# Altium integrated library BB Converter Digital to Analog.IntLib: 269 symbols (part 1 of 6)
Pins are listed as number, name and electrical type; pins without a type are passive.

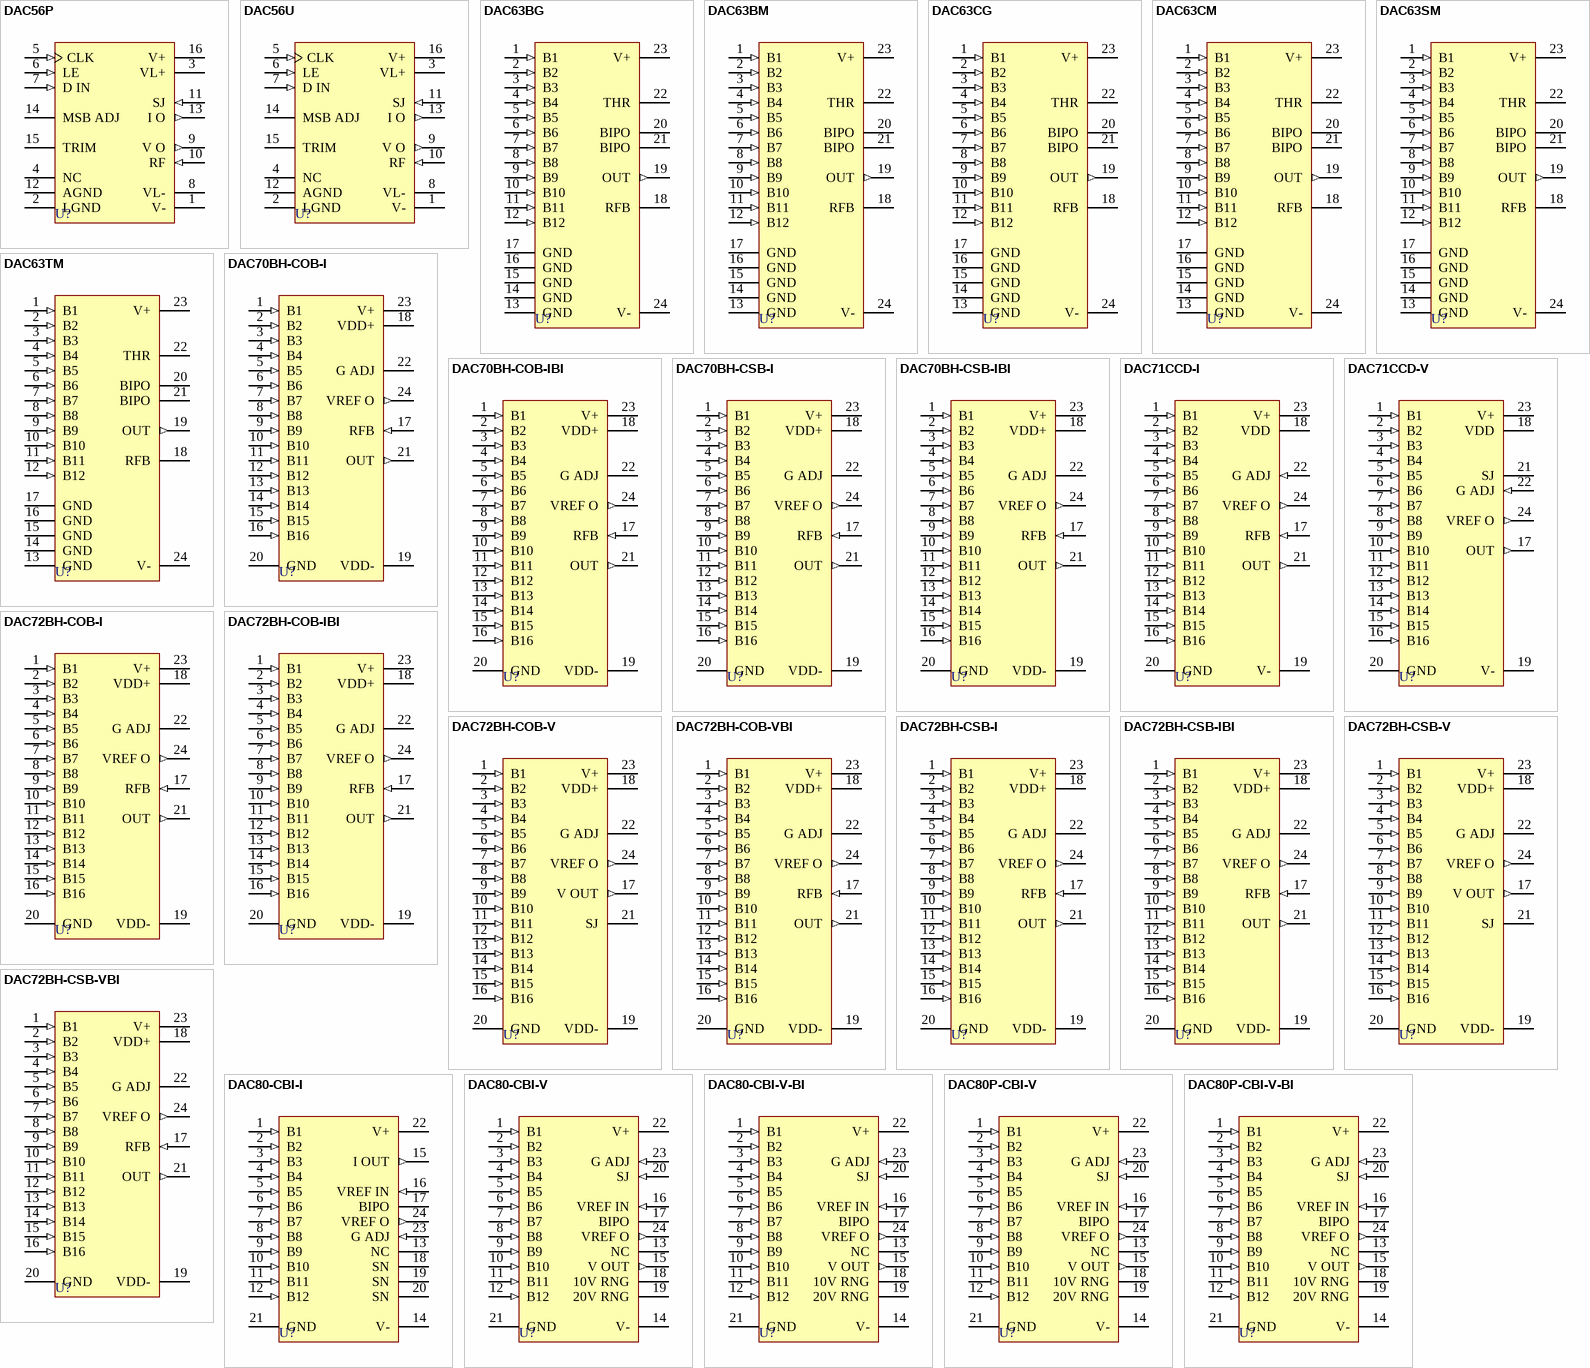
[diagram p0: symbols DAC56P to DAC80P-CBI-V-BI]

## DAC56P
designator U?
Monolithic 16-Bit Resolution Digital-to-Analog Converter; Note: Pin 4 is No internal Connection (NC) pin.; Published: 8-Jun-2000; LatestRevisionDate: 06-Jun-2005; LatestRevisionNote: Stylized 3D Model Added.; PackageVersion: revF; PackageReference: ZZ180; Publisher: Altium Limited; PackageDescription: DIP, Plastic; 16 Leads; Row Spacing 7.62 mm; Pitch 2.54 mm; Code_JEDEC: MS-001-BB; ComponentLink1Description: Manufacturer Link; ComponentLink1URL: http://www.ti.com/; ComponentLink2Description: Datasheet; ComponentLink2URL: http://www-s.ti.com/sc/ds/DAC56.pdf
footprint ZZ180 (DIP, Plastic; 16 Leads; Row Spacing 7.62 mm; Pitch 2.54 mm)
3D model ZZ180 (DIP, Plastic; 16 Leads; Row Spacing 7.62 mm; Pitch 2.54 mm)
pins: 1 V- (power), 2 LGND (power), 3 VL+ (power), 4 NC, 5 CLK (in), 6 LE (in), 7 D IN (in), 8 VL- (power), 9 V O (out), 10 RF (in), 11 SJ (in), 12 AGND (power), 13 I O (out), 14 MSB ADJ, 15 TRIM, 16 V+ (power)

## DAC56U
designator U?
Monolithic 16-Bit Resolution Digital-to-Analog Converter; Note: Pin 4 is No internal Connection (NC) pin.; Published: 8-Jun-2000; LatestRevisionDate: 13-Apr-2006; LatestRevisionNote: IPC-7351 Footprint Added.; PackageReference: 211F; Publisher: Altium Limited; PackageDescription: 16-Pin Small Outline Integrated Circuit 1.27 mm Pitch; Code_JEDEC: MS-013-AA; Code_IPC: SOIC127P1030-16; ComponentLink1Description: Manufacturer Link; ComponentLink1URL: http://www.ti.com/; ComponentLink2Description: Datasheet; ComponentLink2URL: http://www-s.ti.com/sc/ds/DAC56.pdf
footprint 211F_N (SOIC, 16-Leads, Body 10.3x7.5mm, Pitch 1.27mm, IPC Medium Density)
footprint 211F_L (SOIC, 16-Leads, Body 10.3x7.5mm, Pitch 1.27mm, IPC High Density)
footprint 211F_M (SOIC, 16-Leads, Body 10.3x7.5mm, Pitch 1.27mm, IPC Low Density)
3D model SOIC16 (16-Pin Small Outline Integrated Circuit 1.27 mm Pitch)
pins: 1 V- (power), 2 LGND (power), 3 VL+ (power), 4 NC, 5 CLK (in), 6 LE (in), 7 D IN (in), 8 VL- (power), 9 V O (out), 10 RF (in), 11 SJ (in), 12 AGND (power), 13 I O (out), 14 MSB ADJ, 15 TRIM, 16 V+ (power)

## DAC63BG
designator U?
Ultra-High-Speed Digital-to-Analog Converter; Published: 8-Jun-2000; LatestRevisionDate: 17-Jul-2002; LatestRevisionNote: PCB footprint, 'DIP-P24/X1.1' replaced, Re-released for DXP Platform.; DatasheetVersion: 1989; PackageVersion: 1989; PackageReference: H24; Publisher: Altium Limited; PackageDescription: DIP; 24 Rectangular Pins; Row Space 15.24 mm; Pitch 2.54 mm; ComponentLink1Description: Manufacturer Link; ComponentLink1URL: http://www.ti.com/
footprint H24 (DIP; 24 Rectangular Pins; Row Space 15.24 mm; Pitch 2.54 mm)
pins: 1 B1 (in), 2 B2 (in), 3 B3 (in), 4 B4 (in), 5 B5 (in), 6 B6 (in), 7 B7 (in), 8 B8 (in), 9 B9 (in), 10 B10 (in), 11 B11 (in), 12 B12 (in), 13 GND (power), 14 GND (power), 15 GND (power), 16 GND (power), 17 GND (power), 18 RFB, 19 OUT (out), 20 BIPO, 21 BIPO, 22 THR, 23 V+ (power), 24 V- (power)

## DAC63BM
designator U?
Ultra-High-Speed Digital-to-Analog Converter; Published: 8-Jun-2000; LatestRevisionDate: 17-Jul-2002; LatestRevisionNote: Re-released for DXP Platform.; DatasheetVersion: 1989; PackageVersion: 1994; PackageReference: ZZ113; Publisher: Altium Limited; PackageDescription: DIP; 24 Round Pins; Row Space 15.24 mm; Pitch 2.54 mm; ComponentLink1Description: Manufacturer Link; ComponentLink1URL: http://www.ti.com/
footprint ZZ113 (DIP; 24 Round Pins; Row Space 15.24 mm; Pitch 2.54 mm)
pins: 1 B1 (in), 2 B2 (in), 3 B3 (in), 4 B4 (in), 5 B5 (in), 6 B6 (in), 7 B7 (in), 8 B8 (in), 9 B9 (in), 10 B10 (in), 11 B11 (in), 12 B12 (in), 13 GND (power), 14 GND (power), 15 GND (power), 16 GND (power), 17 GND (power), 18 RFB, 19 OUT (out), 20 BIPO, 21 BIPO, 22 THR, 23 V+ (power), 24 V- (power)

## DAC63CG
designator U?
Ultra-High-Speed Digital-to-Analog Converter; Published: 8-Jun-2000; LatestRevisionDate: 17-Jul-2002; LatestRevisionNote: PCB footprint, 'DIP-P24/X1.1' replaced, Re-released for DXP Platform.; DatasheetVersion: 1989; PackageVersion: 1989; PackageReference: H24; Publisher: Altium Limited; PackageDescription: DIP; 24 Rectangular Pins; Row Space 15.24 mm; Pitch 2.54 mm; ComponentLink1Description: Manufacturer Link; ComponentLink1URL: http://www.ti.com/
footprint H24 (DIP; 24 Rectangular Pins; Row Space 15.24 mm; Pitch 2.54 mm)
pins: 1 B1 (in), 2 B2 (in), 3 B3 (in), 4 B4 (in), 5 B5 (in), 6 B6 (in), 7 B7 (in), 8 B8 (in), 9 B9 (in), 10 B10 (in), 11 B11 (in), 12 B12 (in), 13 GND (power), 14 GND (power), 15 GND (power), 16 GND (power), 17 GND (power), 18 RFB, 19 OUT (out), 20 BIPO, 21 BIPO, 22 THR, 23 V+ (power), 24 V- (power)

## DAC63CM
designator U?
Ultra-High-Speed Digital-to-Analog Converter; Published: 8-Jun-2000; LatestRevisionDate: 17-Jul-2002; LatestRevisionNote: Re-released for DXP Platform.; DatasheetVersion: 1989; PackageVersion: 1994; PackageReference: ZZ113; Publisher: Altium Limited; PackageDescription: DIP; 24 Round Pins; Row Space 15.24 mm; Pitch 2.54 mm; ComponentLink1Description: Manufacturer Link; ComponentLink1URL: http://www.ti.com/
footprint ZZ113 (DIP; 24 Round Pins; Row Space 15.24 mm; Pitch 2.54 mm)
pins: 1 B1 (in), 2 B2 (in), 3 B3 (in), 4 B4 (in), 5 B5 (in), 6 B6 (in), 7 B7 (in), 8 B8 (in), 9 B9 (in), 10 B10 (in), 11 B11 (in), 12 B12 (in), 13 GND (power), 14 GND (power), 15 GND (power), 16 GND (power), 17 GND (power), 18 RFB, 19 OUT (out), 20 BIPO, 21 BIPO, 22 THR, 23 V+ (power), 24 V- (power)

## DAC63SM
designator U?
Ultra-High-Speed Digital-to-Analog Converter; Published: 8-Jun-2000; LatestRevisionDate: 17-Jul-2002; LatestRevisionNote: Re-released for DXP Platform.; DatasheetVersion: 1989; PackageVersion: 1994; PackageReference: ZZ113; Publisher: Altium Limited; PackageDescription: DIP; 24 Round Pins; Row Space 15.24 mm; Pitch 2.54 mm; ComponentLink1Description: Manufacturer Link; ComponentLink1URL: http://www.ti.com/
footprint ZZ113 (DIP; 24 Round Pins; Row Space 15.24 mm; Pitch 2.54 mm)
pins: 1 B1 (in), 2 B2 (in), 3 B3 (in), 4 B4 (in), 5 B5 (in), 6 B6 (in), 7 B7 (in), 8 B8 (in), 9 B9 (in), 10 B10 (in), 11 B11 (in), 12 B12 (in), 13 GND (power), 14 GND (power), 15 GND (power), 16 GND (power), 17 GND (power), 18 RFB, 19 OUT (out), 20 BIPO, 21 BIPO, 22 THR, 23 V+ (power), 24 V- (power)

## DAC63TM
designator U?
Ultra-High-Speed Digital-to-Analog Converter; Published: 8-Jun-2000; LatestRevisionDate: 17-Jul-2002; LatestRevisionNote: Re-released for DXP Platform.; DatasheetVersion: 1989; PackageVersion: 1994; PackageReference: ZZ113; Publisher: Altium Limited; PackageDescription: DIP; 24 Round Pins; Row Space 15.24 mm; Pitch 2.54 mm; ComponentLink1Description: Manufacturer Link; ComponentLink1URL: http://www.ti.com/
footprint ZZ113 (DIP; 24 Round Pins; Row Space 15.24 mm; Pitch 2.54 mm)
pins: 1 B1 (in), 2 B2 (in), 3 B3 (in), 4 B4 (in), 5 B5 (in), 6 B6 (in), 7 B7 (in), 8 B8 (in), 9 B9 (in), 10 B10 (in), 11 B11 (in), 12 B12 (in), 13 GND (power), 14 GND (power), 15 GND (power), 16 GND (power), 17 GND (power), 18 RFB, 19 OUT (out), 20 BIPO, 21 BIPO, 22 THR, 23 V+ (power), 24 V- (power)

## DAC70BH-COB-I
designator U?
Monolithic 16-Bit Digital-to-Analog Converter; ComponentAvailability: Obsolete; Published: 8-Jun-2000; LatestRevisionDate: 06-Jun-2005; LatestRevisionNote: Stylized 3D Model Added.; DatasheetVersion: 1989; PackageReference: DIP24C; Publisher: Altium Limited; PackageDescription: DIP; 24 Leads; Row Spacing 15.24 mm; Pitch 2.54 mm; ComponentLink1Description: Manufacturer Link; ComponentLink1URL: http://www.ti.com/; ComponentLink2Description: Datasheet; ComponentLink2URL: http://www-s.ti.com/sc/ds/dac70.pdf
footprint DIP24C (DIP; 24 Leads; Row Spacing 15.24 mm; Pitch 2.54 mm)
3D model DIP24C (DIP; 24 Leads; Row Spacing 15.24 mm; Pitch 2.54 mm)
pins: 1 B1 (in), 2 B2 (in), 3 B3 (in), 4 B4 (in), 5 B5 (in), 6 B6 (in), 7 B7 (in), 8 B8 (in), 9 B9 (in), 10 B10 (in), 11 B11 (in), 12 B12 (in), 13 B13 (in), 14 B14 (in), 15 B15 (in), 16 B16 (in), 17 RFB (in), 18 VDD+ (power), 19 VDD- (power), 20 GND (power), 21 OUT (out), 22 G ADJ, 23 V+ (power), 24 VREF O (out)

## DAC70BH-COB-IBI
designator U?
Monolithic 16-Bit Digital-to-Analog Converter; ComponentAvailability: Obsolete; Published: 8-Jun-2000; LatestRevisionDate: 06-Jun-2005; LatestRevisionNote: Stylized 3D Model Added.; DatasheetVersion: 1989; PackageReference: DIP24C; Publisher: Altium Limited; PackageDescription: DIP; 24 Leads; Row Spacing 15.24 mm; Pitch 2.54 mm; ComponentLink1Description: Manufacturer Link; ComponentLink1URL: http://www.ti.com/; ComponentLink2Description: Datasheet; ComponentLink2URL: http://www-s.ti.com/sc/ds/dac70.pdf
footprint DIP24C (DIP; 24 Leads; Row Spacing 15.24 mm; Pitch 2.54 mm)
3D model DIP24C (DIP; 24 Leads; Row Spacing 15.24 mm; Pitch 2.54 mm)
pins: 1 B1 (in), 2 B2 (in), 3 B3 (in), 4 B4 (in), 5 B5 (in), 6 B6 (in), 7 B7 (in), 8 B8 (in), 9 B9 (in), 10 B10 (in), 11 B11 (in), 12 B12 (in), 13 B13 (in), 14 B14 (in), 15 B15 (in), 16 B16 (in), 17 RFB (in), 18 VDD+ (power), 19 VDD- (power), 20 GND (power), 21 OUT (out), 22 G ADJ, 23 V+ (power), 24 VREF O (out)

## DAC70BH-CSB-I
designator U?
Monolithic 16-Bit Digital-to-Analog Converter; ComponentAvailability: Obsolete; Published: 8-Jun-2000; LatestRevisionDate: 06-Jun-2005; LatestRevisionNote: Stylized 3D Model Added.; DatasheetVersion: 1989; PackageReference: DIP24C; Publisher: Altium Limited; PackageDescription: DIP; 24 Leads; Row Spacing 15.24 mm; Pitch 2.54 mm; ComponentLink1Description: Manufacturer Link; ComponentLink1URL: http://www.ti.com/; ComponentLink2Description: Datasheet; ComponentLink2URL: http://www-s.ti.com/sc/ds/dac70.pdf
footprint DIP24C (DIP; 24 Leads; Row Spacing 15.24 mm; Pitch 2.54 mm)
3D model DIP24C (DIP; 24 Leads; Row Spacing 15.24 mm; Pitch 2.54 mm)
pins: 1 B1 (in), 2 B2 (in), 3 B3 (in), 4 B4 (in), 5 B5 (in), 6 B6 (in), 7 B7 (in), 8 B8 (in), 9 B9 (in), 10 B10 (in), 11 B11 (in), 12 B12 (in), 13 B13 (in), 14 B14 (in), 15 B15 (in), 16 B16 (in), 17 RFB (in), 18 VDD+ (power), 19 VDD- (power), 20 GND (power), 21 OUT (out), 22 G ADJ, 23 V+ (power), 24 VREF O (out)

## DAC70BH-CSB-IBI
designator U?
Monolithic 16-Bit Digital-to-Analog Converter; ComponentAvailability: Obsolete; Published: 8-Jun-2000; LatestRevisionDate: 06-Jun-2005; LatestRevisionNote: Stylized 3D Model Added.; DatasheetVersion: 1989; PackageReference: DIP24C; Publisher: Altium Limited; PackageDescription: DIP; 24 Leads; Row Spacing 15.24 mm; Pitch 2.54 mm; ComponentLink1Description: Manufacturer Link; ComponentLink1URL: http://www.ti.com/; ComponentLink2Description: Datasheet; ComponentLink2URL: http://www-s.ti.com/sc/ds/dac70.pdf
footprint DIP24C (DIP; 24 Leads; Row Spacing 15.24 mm; Pitch 2.54 mm)
3D model DIP24C (DIP; 24 Leads; Row Spacing 15.24 mm; Pitch 2.54 mm)
pins: 1 B1 (in), 2 B2 (in), 3 B3 (in), 4 B4 (in), 5 B5 (in), 6 B6 (in), 7 B7 (in), 8 B8 (in), 9 B9 (in), 10 B10 (in), 11 B11 (in), 12 B12 (in), 13 B13 (in), 14 B14 (in), 15 B15 (in), 16 B16 (in), 17 RFB (in), 18 VDD+ (power), 19 VDD- (power), 20 GND (power), 21 OUT (out), 22 G ADJ, 23 V+ (power), 24 VREF O (out)

## DAC71CCD-I
designator U?
High Resolution 16-Bit Digital-to-Analog Converter; Published: 8-Jun-2000; LatestRevisionDate: 17-Jul-2002; LatestRevisionNote: Re-released for DXP Platform.; DatasheetVersion: 1989; PackageVersion: revA; PackageReference: ZZ075; Publisher: Altium Limited; PackageDescription: DIP; 24 Round Pins; Row Space 15.24 mm; Pitch 2.54 mm; ComponentLink1Description: Manufacturer Link; ComponentLink1URL: http://www.ti.com/
footprint ZZ075 (DIP; 24 Round Pins; Row Space 15.24 mm; Pitch 2.54 mm)
pins: 1 B1 (in), 2 B2 (in), 3 B3 (in), 4 B4 (in), 5 B5 (in), 6 B6 (in), 7 B7 (in), 8 B8 (in), 9 B9 (in), 10 B10 (in), 11 B11 (in), 12 B12 (in), 13 B13 (in), 14 B14 (in), 15 B15 (in), 16 B16 (in), 17 RFB (in), 18 VDD (power), 19 V- (power), 20 GND (power), 21 OUT (out), 22 G ADJ (in), 23 V+ (power), 24 VREF O (out)

## DAC71CCD-V
designator U?
High Resolution 16-Bit Digital-to-Analog Converter; Published: 8-Jun-2000; LatestRevisionDate: 17-Jul-2002; LatestRevisionNote: Re-released for DXP Platform.; DatasheetVersion: 1989; PackageVersion: revA; PackageReference: ZZ075; Publisher: Altium Limited; PackageDescription: DIP; 24 Round Pins; Row Space 15.24 mm; Pitch 2.54 mm; ComponentLink1Description: Manufacturer Link; ComponentLink1URL: http://www.ti.com/
footprint ZZ075 (DIP; 24 Round Pins; Row Space 15.24 mm; Pitch 2.54 mm)
pins: 1 B1 (in), 2 B2 (in), 3 B3 (in), 4 B4 (in), 5 B5 (in), 6 B6 (in), 7 B7 (in), 8 B8 (in), 9 B9 (in), 10 B10 (in), 11 B11 (in), 12 B12 (in), 13 B13 (in), 14 B14 (in), 15 B15 (in), 16 B16 (in), 17 OUT (out), 18 VDD (power), 19 V- (power), 20 GND (power), 21 SJ, 22 G ADJ (in), 23 V+ (power), 24 VREF O (out)

## DAC72BH-COB-I
designator U?
Monolithic 16-Bit Digital-to-Analog Converter; Published: 8-Jun-2000; LatestRevisionDate: 06-Jun-2005; LatestRevisionNote: Stylized 3D Model Added.; DatasheetVersion: 1989; PackageReference: DIP24C; Publisher: Altium Limited; PackageDescription: DIP; 24 Leads; Row Spacing 15.24 mm; Pitch 2.54 mm; ComponentLink1Description: Manufacturer Link; ComponentLink1URL: http://www.ti.com/
footprint DIP24C (DIP; 24 Leads; Row Spacing 15.24 mm; Pitch 2.54 mm)
3D model DIP24C (DIP; 24 Leads; Row Spacing 15.24 mm; Pitch 2.54 mm)
pins: 1 B1 (in), 2 B2 (in), 3 B3 (in), 4 B4 (in), 5 B5 (in), 6 B6 (in), 7 B7 (in), 8 B8 (in), 9 B9 (in), 10 B10 (in), 11 B11 (in), 12 B12 (in), 13 B13 (in), 14 B14 (in), 15 B15 (in), 16 B16 (in), 17 RFB (in), 18 VDD+ (power), 19 VDD- (power), 20 GND (power), 21 OUT (out), 22 G ADJ, 23 V+ (power), 24 VREF O (out)

## DAC72BH-COB-IBI
designator U?
Monolithic 16-Bit Digital-to-Analog Converter; Published: 8-Jun-2000; LatestRevisionDate: 06-Jun-2005; LatestRevisionNote: Stylized 3D Model Added.; DatasheetVersion: 1989; PackageReference: DIP24C; Publisher: Altium Limited; PackageDescription: DIP; 24 Leads; Row Spacing 15.24 mm; Pitch 2.54 mm; ComponentLink1Description: Manufacturer Link; ComponentLink1URL: http://www.ti.com/
footprint DIP24C (DIP; 24 Leads; Row Spacing 15.24 mm; Pitch 2.54 mm)
3D model DIP24C (DIP; 24 Leads; Row Spacing 15.24 mm; Pitch 2.54 mm)
pins: 1 B1 (in), 2 B2 (in), 3 B3 (in), 4 B4 (in), 5 B5 (in), 6 B6 (in), 7 B7 (in), 8 B8 (in), 9 B9 (in), 10 B10 (in), 11 B11 (in), 12 B12 (in), 13 B13 (in), 14 B14 (in), 15 B15 (in), 16 B16 (in), 17 RFB (in), 18 VDD+ (power), 19 VDD- (power), 20 GND (power), 21 OUT (out), 22 G ADJ, 23 V+ (power), 24 VREF O (out)

## DAC72BH-COB-V
designator U?
Monolithic 16-Bit Digital-to-Analog Converter; Published: 8-Jun-2000; LatestRevisionDate: 06-Jun-2005; LatestRevisionNote: Stylized 3D Model Added.; DatasheetVersion: 1989; PackageReference: DIP24C; Publisher: Altium Limited; PackageDescription: DIP; 24 Leads; Row Spacing 15.24 mm; Pitch 2.54 mm; ComponentLink1Description: Manufacturer Link; ComponentLink1URL: http://www.ti.com/
footprint DIP24C (DIP; 24 Leads; Row Spacing 15.24 mm; Pitch 2.54 mm)
3D model DIP24C (DIP; 24 Leads; Row Spacing 15.24 mm; Pitch 2.54 mm)
pins: 1 B1 (in), 2 B2 (in), 3 B3 (in), 4 B4 (in), 5 B5 (in), 6 B6 (in), 7 B7 (in), 8 B8 (in), 9 B9 (in), 10 B10 (in), 11 B11 (in), 12 B12 (in), 13 B13 (in), 14 B14 (in), 15 B15 (in), 16 B16 (in), 17 V OUT (out), 18 VDD+ (power), 19 VDD- (power), 20 GND (power), 21 SJ, 22 G ADJ, 23 V+ (power), 24 VREF O (out)

## DAC72BH-COB-VBI
designator U?
Monolithic 16-Bit Digital-to-Analog Converter; Published: 8-Jun-2000; LatestRevisionDate: 06-Jun-2005; LatestRevisionNote: Stylized 3D Model Added.; DatasheetVersion: 1989; PackageReference: DIP24C; Publisher: Altium Limited; PackageDescription: DIP; 24 Leads; Row Spacing 15.24 mm; Pitch 2.54 mm; ComponentLink1Description: Manufacturer Link; ComponentLink1URL: http://www.ti.com/
footprint DIP24C (DIP; 24 Leads; Row Spacing 15.24 mm; Pitch 2.54 mm)
3D model DIP24C (DIP; 24 Leads; Row Spacing 15.24 mm; Pitch 2.54 mm)
pins: 1 B1 (in), 2 B2 (in), 3 B3 (in), 4 B4 (in), 5 B5 (in), 6 B6 (in), 7 B7 (in), 8 B8 (in), 9 B9 (in), 10 B10 (in), 11 B11 (in), 12 B12 (in), 13 B13 (in), 14 B14 (in), 15 B15 (in), 16 B16 (in), 17 RFB (in), 18 VDD+ (power), 19 VDD- (power), 20 GND (power), 21 OUT (out), 22 G ADJ, 23 V+ (power), 24 VREF O (out)

## DAC72BH-CSB-I
designator U?
Monolithic 16-Bit Digital-to-Analog Converter; Published: 8-Jun-2000; LatestRevisionDate: 06-Jun-2005; LatestRevisionNote: Stylized 3D Model Added.; DatasheetVersion: 1989; PackageReference: DIP24C; Publisher: Altium Limited; PackageDescription: DIP; 24 Leads; Row Spacing 15.24 mm; Pitch 2.54 mm; ComponentLink1Description: Manufacturer Link; ComponentLink1URL: http://www.ti.com/
footprint DIP24C (DIP; 24 Leads; Row Spacing 15.24 mm; Pitch 2.54 mm)
3D model DIP24C (DIP; 24 Leads; Row Spacing 15.24 mm; Pitch 2.54 mm)
pins: 1 B1 (in), 2 B2 (in), 3 B3 (in), 4 B4 (in), 5 B5 (in), 6 B6 (in), 7 B7 (in), 8 B8 (in), 9 B9 (in), 10 B10 (in), 11 B11 (in), 12 B12 (in), 13 B13 (in), 14 B14 (in), 15 B15 (in), 16 B16 (in), 17 RFB (in), 18 VDD+ (power), 19 VDD- (power), 20 GND (power), 21 OUT (out), 22 G ADJ, 23 V+ (power), 24 VREF O (out)

## DAC72BH-CSB-IBI
designator U?
Monolithic 16-Bit Digital-to-Analog Converter; Published: 8-Jun-2000; LatestRevisionDate: 06-Jun-2005; LatestRevisionNote: Stylized 3D Model Added.; DatasheetVersion: 1989; PackageReference: DIP24C; Publisher: Altium Limited; PackageDescription: DIP; 24 Leads; Row Spacing 15.24 mm; Pitch 2.54 mm; ComponentLink1Description: Manufacturer Link; ComponentLink1URL: http://www.ti.com/
footprint DIP24C (DIP; 24 Leads; Row Spacing 15.24 mm; Pitch 2.54 mm)
3D model DIP24C (DIP; 24 Leads; Row Spacing 15.24 mm; Pitch 2.54 mm)
pins: 1 B1 (in), 2 B2 (in), 3 B3 (in), 4 B4 (in), 5 B5 (in), 6 B6 (in), 7 B7 (in), 8 B8 (in), 9 B9 (in), 10 B10 (in), 11 B11 (in), 12 B12 (in), 13 B13 (in), 14 B14 (in), 15 B15 (in), 16 B16 (in), 17 RFB (in), 18 VDD+ (power), 19 VDD- (power), 20 GND (power), 21 OUT (out), 22 G ADJ, 23 V+ (power), 24 VREF O (out)

## DAC72BH-CSB-V
designator U?
Monolithic 16-Bit Digital-to-Analog Converter; Published: 8-Jun-2000; LatestRevisionDate: 06-Jun-2005; LatestRevisionNote: Stylized 3D Model Added.; DatasheetVersion: 1989; PackageReference: DIP24C; Publisher: Altium Limited; PackageDescription: DIP; 24 Leads; Row Spacing 15.24 mm; Pitch 2.54 mm; ComponentLink1Description: Manufacturer Link; ComponentLink1URL: http://www.ti.com/
footprint DIP24C (DIP; 24 Leads; Row Spacing 15.24 mm; Pitch 2.54 mm)
3D model DIP24C (DIP; 24 Leads; Row Spacing 15.24 mm; Pitch 2.54 mm)
pins: 1 B1 (in), 2 B2 (in), 3 B3 (in), 4 B4 (in), 5 B5 (in), 6 B6 (in), 7 B7 (in), 8 B8 (in), 9 B9 (in), 10 B10 (in), 11 B11 (in), 12 B12 (in), 13 B13 (in), 14 B14 (in), 15 B15 (in), 16 B16 (in), 17 V OUT (out), 18 VDD+ (power), 19 VDD- (power), 20 GND (power), 21 SJ, 22 G ADJ, 23 V+ (power), 24 VREF O (out)

## DAC72BH-CSB-VBI
designator U?
Monolithic 16-Bit Digital-to-Analog Converter; Published: 8-Jun-2000; LatestRevisionDate: 06-Jun-2005; LatestRevisionNote: Stylized 3D Model Added.; DatasheetVersion: 1989; PackageReference: DIP24C; Publisher: Altium Limited; PackageDescription: DIP; 24 Leads; Row Spacing 15.24 mm; Pitch 2.54 mm; ComponentLink1Description: Manufacturer Link; ComponentLink1URL: http://www.ti.com/
footprint DIP24C (DIP; 24 Leads; Row Spacing 15.24 mm; Pitch 2.54 mm)
3D model DIP24C (DIP; 24 Leads; Row Spacing 15.24 mm; Pitch 2.54 mm)
pins: 1 B1 (in), 2 B2 (in), 3 B3 (in), 4 B4 (in), 5 B5 (in), 6 B6 (in), 7 B7 (in), 8 B8 (in), 9 B9 (in), 10 B10 (in), 11 B11 (in), 12 B12 (in), 13 B13 (in), 14 B14 (in), 15 B15 (in), 16 B16 (in), 17 RFB (in), 18 VDD+ (power), 19 VDD- (power), 20 GND (power), 21 OUT (out), 22 G ADJ, 23 V+ (power), 24 VREF O (out)

## DAC80-CBI-I
designator U?
Monolithic 12-Bit Digital-to-Analog Converter; Note: Pin 13 is No internal Connection (NC) pin.; ComponentAvailability: Obsolete; Published: 8-Jun-2000; LatestRevisionDate: 06-Jun-2005; LatestRevisionNote: Stylized 3D Model Added.; DatasheetVersion: 1989; PackageReference: CDIP24; Publisher: Altium Limited; PackageDescription: DIP; 24 Leads; Row Spacing 15.24 mm; Pitch 2.54 mm; ComponentLink1Description: Manufacturer Link; ComponentLink1URL: http://www.ti.com/; ComponentLink2Description: Datasheet; ComponentLink2URL: http://www-s.ti.com/sc/ds/dac80p.pdf
footprint CDIP24 (DIP; 24 Leads; Row Spacing 15.24 mm; Pitch 2.54 mm)
3D model CDIP24 (DIP; 24 Leads; Row Spacing 15.24 mm; Pitch 2.54 mm)
pins: 1 B1 (in), 2 B2 (in), 3 B3 (in), 4 B4 (in), 5 B5 (in), 6 B6 (in), 7 B7 (in), 8 B8 (in), 9 B9 (in), 10 B10 (in), 11 B11 (in), 12 B12 (in), 13 NC, 14 V- (power), 15 I OUT (out), 16 VREF IN (in), 17 BIPO, 18 SN, 19 SN, 20 SN, 21 GND (power), 22 V+ (power), 23 G ADJ (in), 24 VREF O (out)

## DAC80-CBI-V
designator U?
Monolithic 12-Bit Digital-to-Analog Converter; Note: Pin 13 is No internal Connection (NC) pin.; ComponentAvailability: Obsolete; Published: 8-Jun-2000; LatestRevisionDate: 06-Jun-2005; LatestRevisionNote: Stylized 3D Model Added.; DatasheetVersion: 1989; PackageReference: CDIP24; Publisher: Altium Limited; PackageDescription: DIP; 24 Leads; Row Spacing 15.24 mm; Pitch 2.54 mm; ComponentLink1Description: Manufacturer Link; ComponentLink1URL: http://www.ti.com/; ComponentLink2Description: Datasheet; ComponentLink2URL: http://www-s.ti.com/sc/ds/dac80p.pdf
footprint CDIP24 (DIP; 24 Leads; Row Spacing 15.24 mm; Pitch 2.54 mm)
3D model CDIP24 (DIP; 24 Leads; Row Spacing 15.24 mm; Pitch 2.54 mm)
pins: 1 B1 (in), 2 B2 (in), 3 B3 (in), 4 B4 (in), 5 B5 (in), 6 B6 (in), 7 B7 (in), 8 B8 (in), 9 B9 (in), 10 B10 (in), 11 B11 (in), 12 B12 (in), 13 NC, 14 V- (power), 15 V OUT (out), 16 VREF IN (in), 17 BIPO, 18 10V RNG, 19 20V RNG, 20 SJ (in), 21 GND (power), 22 V+ (power), 23 G ADJ (in), 24 VREF O (out)

## DAC80-CBI-V-BI
designator U?
Monolithic 12-Bit Digital-to-Analog Converter; Note: Pin 13 is No internal Connection (NC) pin.; ComponentAvailability: Obsolete; Published: 8-Jun-2000; LatestRevisionDate: 06-Jun-2005; LatestRevisionNote: Stylized 3D Model Added.; DatasheetVersion: 1989; PackageReference: CDIP24; Publisher: Altium Limited; PackageDescription: DIP; 24 Leads; Row Spacing 15.24 mm; Pitch 2.54 mm; ComponentLink1Description: Manufacturer Link; ComponentLink1URL: http://www.ti.com/; ComponentLink2Description: Datasheet; ComponentLink2URL: http://www-s.ti.com/sc/ds/dac80p.pdf
footprint CDIP24 (DIP; 24 Leads; Row Spacing 15.24 mm; Pitch 2.54 mm)
3D model CDIP24 (DIP; 24 Leads; Row Spacing 15.24 mm; Pitch 2.54 mm)
pins: 1 B1 (in), 2 B2 (in), 3 B3 (in), 4 B4 (in), 5 B5 (in), 6 B6 (in), 7 B7 (in), 8 B8 (in), 9 B9 (in), 10 B10 (in), 11 B11 (in), 12 B12 (in), 13 NC, 14 V- (power), 15 V OUT (out), 16 VREF IN (in), 17 BIPO, 18 10V RNG, 19 20V RNG, 20 SJ (in), 21 GND (power), 22 V+ (power), 23 G ADJ (in), 24 VREF O (out)

## DAC80P-CBI-V
designator U?
Monolithic 12-Bit Digital-to-Analog Converter; Note: Pin 13 is No internal Connection (NC) pin.; Published: 8-Jun-2000; LatestRevisionDate: 06-Jun-2005; LatestRevisionNote: Stylized 3D Model Added.; DatasheetVersion: Jul-1993; PackageVersion: revH; PackageReference: 167H; Publisher: Altium Limited; PackageDescription: DIP; 24 Leads; Row Spacing 15.24 mm; Pitch 2.54 mm; Code_JEDEC: MS-011-AA; ComponentLink1Description: Manufacturer Link; ComponentLink1URL: http://www.ti.com/; ComponentLink2Description: Datasheet; ComponentLink2URL: http://www-s.ti.com/sc/ds/DAC80.pdf
footprint 167H (DIP; 24 Leads; Row Spacing 15.24 mm; Pitch 2.54 mm)
3D model DIP24D (DIP; 24 Leads; Row Spacing 15.24 mm; Pitch 2.54 mm)
pins: 1 B1 (in), 2 B2 (in), 3 B3 (in), 4 B4 (in), 5 B5 (in), 6 B6 (in), 7 B7 (in), 8 B8 (in), 9 B9 (in), 10 B10 (in), 11 B11 (in), 12 B12 (in), 13 NC, 14 V- (power), 15 V OUT (out), 16 VREF IN (in), 17 BIPO, 18 10V RNG, 19 20V RNG, 20 SJ (in), 21 GND (power), 22 V+ (power), 23 G ADJ (in), 24 VREF O (out)

## DAC80P-CBI-V-BI
designator U?
Monolithic 12-Bit Digital-to-Analog Converter; Note: Pin 13 is No internal Connection (NC) pin.; Published: 8-Jun-2000; LatestRevisionDate: 06-Jun-2005; LatestRevisionNote: Stylized 3D Model Added.; DatasheetVersion: Jul-1993; PackageVersion: revH; PackageReference: 167H; Publisher: Altium Limited; PackageDescription: DIP; 24 Leads; Row Spacing 15.24 mm; Pitch 2.54 mm; Code_JEDEC: MS-011-AA; ComponentLink1Description: Manufacturer Link; ComponentLink1URL: http://www.ti.com/; ComponentLink2Description: Datasheet; ComponentLink2URL: http://www-s.ti.com/sc/ds/DAC80.pdf
footprint 167H (DIP; 24 Leads; Row Spacing 15.24 mm; Pitch 2.54 mm)
3D model DIP24D (DIP; 24 Leads; Row Spacing 15.24 mm; Pitch 2.54 mm)
pins: 1 B1 (in), 2 B2 (in), 3 B3 (in), 4 B4 (in), 5 B5 (in), 6 B6 (in), 7 B7 (in), 8 B8 (in), 9 B9 (in), 10 B10 (in), 11 B11 (in), 12 B12 (in), 13 NC, 14 V- (power), 15 V OUT (out), 16 VREF IN (in), 17 BIPO, 18 10V RNG, 19 20V RNG, 20 SJ (in), 21 GND (power), 22 V+ (power), 23 G ADJ (in), 24 VREF O (out)

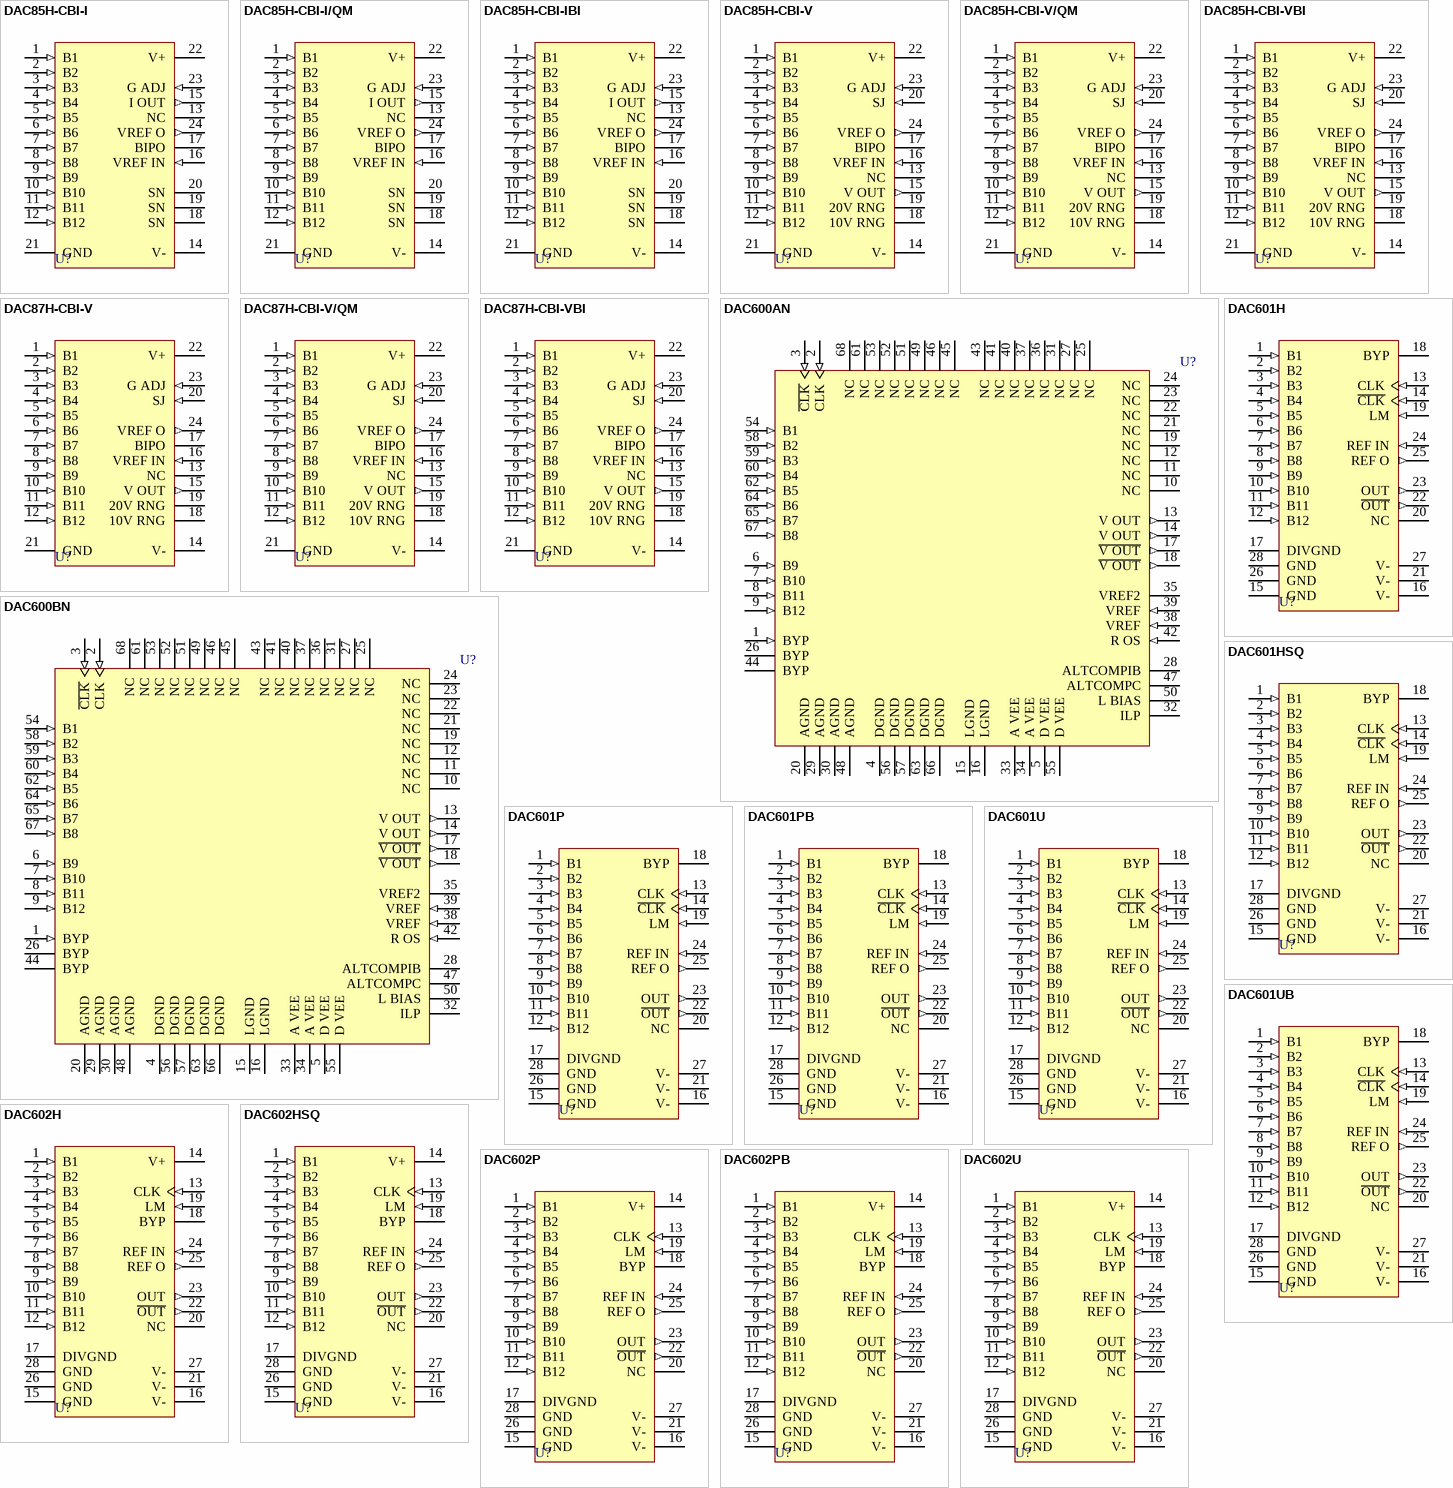
[diagram p1: symbols DAC85H-CBI-I to DAC602U]

## DAC85H-CBI-I
designator U?
Monolithic 12-Bit Digital-to-Analog Converter; Note: Pin 13 is No internal Connection (NC) pin; ComponentAvailability: Obsolete; Published: 8-Jun-2000; LatestRevisionDate: 06-Jun-2005; LatestRevisionNote: Stylized 3D Model Added.; DatasheetVersion: 1989; PackageReference: 125; Publisher: Altium Limited; PackageDescription: DIP; 24 Leads; Row Spacing 15.24 mm; Pitch 2.54 mm; ComponentLink1Description: Manufacturer Link; ComponentLink1URL: http://www.ti.com/
footprint 125 (DIP; 24 Leads; Row Spacing 15.24 mm; Pitch 2.54 mm)
3D model CDIP24 (DIP; 24 Leads; Row Spacing 15.24 mm; Pitch 2.54 mm)
pins: 1 B1 (in), 2 B2 (in), 3 B3 (in), 4 B4 (in), 5 B5 (in), 6 B6 (in), 7 B7 (in), 8 B8 (in), 9 B9 (in), 10 B10 (in), 11 B11 (in), 12 B12 (in), 13 NC, 14 V- (power), 15 I OUT (out), 16 VREF IN (in), 17 BIPO, 18 SN, 19 SN, 20 SN, 21 GND (power), 22 V+ (power), 23 G ADJ (in), 24 VREF O (out)

## DAC85H-CBI-I/QM
designator U?
Monolithic 12-Bit Digital-to-Analog Converter; Note: Pin 13 is No internal Connection (NC) pin; ComponentAvailability: Obsolete; Published: 8-Jun-2000; LatestRevisionDate: 06-Jun-2005; LatestRevisionNote: Stylized 3D Model Added.; DatasheetVersion: 1989; PackageReference: 125; Publisher: Altium Limited; PackageDescription: DIP; 24 Leads; Row Spacing 15.24 mm; Pitch 2.54 mm; ComponentLink1Description: Manufacturer Link; ComponentLink1URL: http://www.ti.com/
footprint 125 (DIP; 24 Leads; Row Spacing 15.24 mm; Pitch 2.54 mm)
3D model CDIP24 (DIP; 24 Leads; Row Spacing 15.24 mm; Pitch 2.54 mm)
pins: 1 B1 (in), 2 B2 (in), 3 B3 (in), 4 B4 (in), 5 B5 (in), 6 B6 (in), 7 B7 (in), 8 B8 (in), 9 B9 (in), 10 B10 (in), 11 B11 (in), 12 B12 (in), 13 NC, 14 V- (power), 15 I OUT (out), 16 VREF IN (in), 17 BIPO, 18 SN, 19 SN, 20 SN, 21 GND (power), 22 V+ (power), 23 G ADJ (in), 24 VREF O (out)

## DAC85H-CBI-IBI
designator U?
Monolithic 12-Bit Digital-to-Analog Converter; Note: Pin 13 is No internal Connection (NC) pin; ComponentAvailability: Obsolete; Published: 8-Jun-2000; LatestRevisionDate: 06-Jun-2005; LatestRevisionNote: Stylized 3D Model Added.; DatasheetVersion: 1989; PackageReference: 125; Publisher: Altium Limited; PackageDescription: DIP; 24 Leads; Row Spacing 15.24 mm; Pitch 2.54 mm; ComponentLink1Description: Manufacturer Link; ComponentLink1URL: http://www.ti.com/
footprint 125 (DIP; 24 Leads; Row Spacing 15.24 mm; Pitch 2.54 mm)
3D model CDIP24 (DIP; 24 Leads; Row Spacing 15.24 mm; Pitch 2.54 mm)
pins: 1 B1 (in), 2 B2 (in), 3 B3 (in), 4 B4 (in), 5 B5 (in), 6 B6 (in), 7 B7 (in), 8 B8 (in), 9 B9 (in), 10 B10 (in), 11 B11 (in), 12 B12 (in), 13 NC, 14 V- (power), 15 I OUT (out), 16 VREF IN (in), 17 BIPO, 18 SN, 19 SN, 20 SN, 21 GND (power), 22 V+ (power), 23 G ADJ (in), 24 VREF O (out)

## DAC85H-CBI-V
designator U?
Monolithic 12-Bit Digital-to-Analog Converter; Note: Pin 13 is No internal Connection (NC) pin; ComponentAvailability: Obsolete; Published: 8-Jun-2000; LatestRevisionDate: 06-Jun-2005; LatestRevisionNote: Stylized 3D Model Added.; DatasheetVersion: 1989; PackageReference: 125; Publisher: Altium Limited; PackageDescription: DIP; 24 Leads; Row Spacing 15.24 mm; Pitch 2.54 mm; ComponentLink1Description: Manufacturer Link; ComponentLink1URL: http://www.ti.com/
footprint 125 (DIP; 24 Leads; Row Spacing 15.24 mm; Pitch 2.54 mm)
3D model CDIP24 (DIP; 24 Leads; Row Spacing 15.24 mm; Pitch 2.54 mm)
pins: 1 B1 (in), 2 B2 (in), 3 B3 (in), 4 B4 (in), 5 B5 (in), 6 B6 (in), 7 B7 (in), 8 B8 (in), 9 B9 (in), 10 B10 (in), 11 B11 (in), 12 B12 (in), 13 NC, 14 V- (power), 15 V OUT (out), 16 VREF IN (in), 17 BIPO, 18 10V RNG, 19 20V RNG, 20 SJ (in), 21 GND (power), 22 V+ (power), 23 G ADJ (in), 24 VREF O (out)

## DAC85H-CBI-V/QM
designator U?
Monolithic 12-Bit Digital-to-Analog Converter; Note: Pin 13 is No internal Connection (NC) pin; ComponentAvailability: Obsolete; Published: 8-Jun-2000; LatestRevisionDate: 06-Jun-2005; LatestRevisionNote: Stylized 3D Model Added.; DatasheetVersion: 1989; PackageReference: 125; Publisher: Altium Limited; PackageDescription: DIP; 24 Leads; Row Spacing 15.24 mm; Pitch 2.54 mm; ComponentLink1Description: Manufacturer Link; ComponentLink1URL: http://www.ti.com/
footprint 125 (DIP; 24 Leads; Row Spacing 15.24 mm; Pitch 2.54 mm)
3D model CDIP24 (DIP; 24 Leads; Row Spacing 15.24 mm; Pitch 2.54 mm)
pins: 1 B1 (in), 2 B2 (in), 3 B3 (in), 4 B4 (in), 5 B5 (in), 6 B6 (in), 7 B7 (in), 8 B8 (in), 9 B9 (in), 10 B10 (in), 11 B11 (in), 12 B12 (in), 13 NC, 14 V- (power), 15 V OUT (out), 16 VREF IN (in), 17 BIPO, 18 10V RNG, 19 20V RNG, 20 SJ (in), 21 GND (power), 22 V+ (power), 23 G ADJ (in), 24 VREF O (out)

## DAC85H-CBI-VBI
designator U?
Monolithic 12-Bit Digital-to-Analog Converter; Note: Pin 13 is No internal Connection (NC) pin; ComponentAvailability: Obsolete; Published: 8-Jun-2000; LatestRevisionDate: 06-Jun-2005; LatestRevisionNote: Stylized 3D Model Added.; DatasheetVersion: 1989; PackageReference: 125; Publisher: Altium Limited; PackageDescription: DIP; 24 Leads; Row Spacing 15.24 mm; Pitch 2.54 mm; ComponentLink1Description: Manufacturer Link; ComponentLink1URL: http://www.ti.com/
footprint 125 (DIP; 24 Leads; Row Spacing 15.24 mm; Pitch 2.54 mm)
3D model CDIP24 (DIP; 24 Leads; Row Spacing 15.24 mm; Pitch 2.54 mm)
pins: 1 B1 (in), 2 B2 (in), 3 B3 (in), 4 B4 (in), 5 B5 (in), 6 B6 (in), 7 B7 (in), 8 B8 (in), 9 B9 (in), 10 B10 (in), 11 B11 (in), 12 B12 (in), 13 NC, 14 V- (power), 15 V OUT (out), 16 VREF IN (in), 17 BIPO, 18 10V RNG, 19 20V RNG, 20 SJ (in), 21 GND (power), 22 V+ (power), 23 G ADJ (in), 24 VREF O (out)

## DAC87H-CBI-V
designator U?
Monolithic 12-Bit Digital-to-Analog Converter; Note: Pin 13 is No internal Connection (NC) pin; ComponentAvailability: Obsolete; Published: 8-Jun-2000; LatestRevisionDate: 06-Jun-2005; LatestRevisionNote: Stylized 3D Model Added.; DatasheetVersion: 1989; PackageReference: 125; Publisher: Altium Limited; PackageDescription: DIP; 24 Leads; Row Spacing 15.24 mm; Pitch 2.54 mm; ComponentLink1Description: Manufacturer Link; ComponentLink1URL: http://www.ti.com/
footprint 125 (DIP; 24 Leads; Row Spacing 15.24 mm; Pitch 2.54 mm)
3D model CDIP24 (DIP; 24 Leads; Row Spacing 15.24 mm; Pitch 2.54 mm)
pins: 1 B1 (in), 2 B2 (in), 3 B3 (in), 4 B4 (in), 5 B5 (in), 6 B6 (in), 7 B7 (in), 8 B8 (in), 9 B9 (in), 10 B10 (in), 11 B11 (in), 12 B12 (in), 13 NC, 14 V- (power), 15 V OUT (out), 16 VREF IN (in), 17 BIPO, 18 10V RNG, 19 20V RNG, 20 SJ (in), 21 GND (power), 22 V+ (power), 23 G ADJ (in), 24 VREF O (out)

## DAC87H-CBI-V/QM
designator U?
Monolithic 12-Bit Digital-to-Analog Converter; Note: Pin 13 is No internal Connection (NC) pin; ComponentAvailability: Obsolete; Published: 8-Jun-2000; LatestRevisionDate: 06-Jun-2005; LatestRevisionNote: Stylized 3D Model Added.; DatasheetVersion: 1989; PackageReference: 125; Publisher: Altium Limited; PackageDescription: DIP; 24 Leads; Row Spacing 15.24 mm; Pitch 2.54 mm; ComponentLink1Description: Manufacturer Link; ComponentLink1URL: http://www.ti.com/
footprint 125 (DIP; 24 Leads; Row Spacing 15.24 mm; Pitch 2.54 mm)
3D model CDIP24 (DIP; 24 Leads; Row Spacing 15.24 mm; Pitch 2.54 mm)
pins: 1 B1 (in), 2 B2 (in), 3 B3 (in), 4 B4 (in), 5 B5 (in), 6 B6 (in), 7 B7 (in), 8 B8 (in), 9 B9 (in), 10 B10 (in), 11 B11 (in), 12 B12 (in), 13 NC, 14 V- (power), 15 V OUT (out), 16 VREF IN (in), 17 BIPO, 18 10V RNG, 19 20V RNG, 20 SJ (in), 21 GND (power), 22 V+ (power), 23 G ADJ (in), 24 VREF O (out)

## DAC87H-CBI-VBI
designator U?
Monolithic 12-Bit Digital-to-Analog Converter; Note: Pin 13 is No internal Connection (NC) pin; ComponentAvailability: Obsolete; Published: 8-Jun-2000; LatestRevisionDate: 06-Jun-2005; LatestRevisionNote: Stylized 3D Model Added.; DatasheetVersion: 1989; PackageReference: 125; Publisher: Altium Limited; PackageDescription: DIP; 24 Leads; Row Spacing 15.24 mm; Pitch 2.54 mm; ComponentLink1Description: Manufacturer Link; ComponentLink1URL: http://www.ti.com/
footprint 125 (DIP; 24 Leads; Row Spacing 15.24 mm; Pitch 2.54 mm)
3D model CDIP24 (DIP; 24 Leads; Row Spacing 15.24 mm; Pitch 2.54 mm)
pins: 1 B1 (in), 2 B2 (in), 3 B3 (in), 4 B4 (in), 5 B5 (in), 6 B6 (in), 7 B7 (in), 8 B8 (in), 9 B9 (in), 10 B10 (in), 11 B11 (in), 12 B12 (in), 13 NC, 14 V- (power), 15 V OUT (out), 16 VREF IN (in), 17 BIPO, 18 10V RNG, 19 20V RNG, 20 SJ (in), 21 GND (power), 22 V+ (power), 23 G ADJ (in), 24 VREF O (out)

## DAC600AN
designator U?
12-Bit 256MHz Monolithic Digital-to-Analog Converter; Note: Pins 10 to 12,19, 21 to 25, 27, 31, 36, 37, 40, 41, 43,45, 46, 49, 51 to 53, 61 and 68 are No internal Connection (NC) pins; Connect bypass capacitor to VEE.; Published: 8-Jun-2000; LatestRevisionDate: 13-Apr-2006; LatestRevisionNote: IPC-7351 Footprint Added.; DatasheetVersion: 1994; PackageVersion: 1994; PackageReference: 312-1; Publisher: Altium Limited; PackageDescription: 68-Pin Leaded Chip Carrier 1.27 mm Pitch; Code_IPC: PLCC-68; ComponentLink1Description: Manufacturer Link; ComponentLink1URL: http://www.ti.com/
footprint 312-1_N (Leaded Chip Carrier, 68-Leads, Body 24.2x24.2mm, Pitch 1.27mm, IPC Medium Density)
footprint 312-1_L (Leaded Chip Carrier, 68-Leads, Body 24.2x24.2mm, Pitch 1.27mm, IPC High Density)
footprint 312-1_M (Leaded Chip Carrier, 68-Leads, Body 24.2x24.2mm, Pitch 1.27mm, IPC Low Density)
3D model DAC600AN-LCC68 (68-Pin Leaded Chip Carrier 1.27 mm Pitch)
pins: 1 BYP (in), 2 CLK (in), 3 ~{CLK} (in), 4 DGND (power), 5 D VEE (power), 6 B9 (in), 7 B10 (in), 8 B11 (in), 9 B12 (in), 10 NC, 11 NC, 12 NC, 13 V OUT (out), 14 V OUT (out), 15 LGND (power), 16 LGND (power), 17 ~{V OUT} (out), 18 ~{V OUT} (out), 19 NC, 20 AGND (power), 21 NC, 22 NC, 23 NC, 24 NC, 25 NC, 26 BYP, 27 NC, 28 ALTCOMPIB, 29 AGND (power), 30 AGND (power), 31 NC, 32 ILP, 33 A VEE (power), 34 A VEE (power), 35 VREF2, 36 NC, 37 NC, 38 VREF (in), 39 VREF (in), 40 NC, 41 NC, 42 R OS (in), 43 NC, 44 BYP, 45 NC, 46 NC, 47 ALTCOMPC, 48 AGND (power), 49 NC, 50 L BIAS, 51 NC, 52 NC, 53 NC, 54 B1 (in), 55 D VEE (power), 56 DGND (power), 57 DGND (power), 58 B2 (in), 59 B3 (in), 60 B4 (in), 61 NC, 62 B5 (in), 63 DGND (power), 64 B6 (in), 65 B7 (in), 66 DGND (power), 67 B8 (in), 68 NC

## DAC600BN
designator U?
12-Bit 256MHz Monolithic Digital-to-Analog Converter; Note: Pins 10 to 12,19, 21 to 25, 27, 31, 36, 37, 40, 41, 43,45, 46, 49, 51 to 53, 61 and 68 are No internal Connection (NC) pins; Connect bypass capacitor to VEE.; Published: 8-Jun-2000; LatestRevisionDate: 13-Apr-2006; LatestRevisionNote: IPC-7351 Footprint Added.; DatasheetVersion: 1994; PackageVersion: 1994; PackageReference: 312-1; Publisher: Altium Limited; PackageDescription: 68-Pin Leaded Chip Carrier 1.27 mm Pitch; Code_IPC: PLCC-68; ComponentLink1Description: Manufacturer Link; ComponentLink1URL: http://www.ti.com/
footprint 312-1_N (Leaded Chip Carrier, 68-Leads, Body 24.2x24.2mm, Pitch 1.27mm, IPC Medium Density)
footprint 312-1_L (Leaded Chip Carrier, 68-Leads, Body 24.2x24.2mm, Pitch 1.27mm, IPC High Density)
footprint 312-1_M (Leaded Chip Carrier, 68-Leads, Body 24.2x24.2mm, Pitch 1.27mm, IPC Low Density)
3D model DAC600BN-LCC68 (68-Pin Leaded Chip Carrier 1.27 mm Pitch)
pins: 1 BYP (in), 2 CLK (in), 3 ~{CLK} (in), 4 DGND (power), 5 D VEE (power), 6 B9 (in), 7 B10 (in), 8 B11 (in), 9 B12 (in), 10 NC, 11 NC, 12 NC, 13 V OUT (out), 14 V OUT (out), 15 LGND (power), 16 LGND (power), 17 ~{V OUT} (out), 18 ~{V OUT} (out), 19 NC, 20 AGND (power), 21 NC, 22 NC, 23 NC, 24 NC, 25 NC, 26 BYP, 27 NC, 28 ALTCOMPIB, 29 AGND (power), 30 AGND (power), 31 NC, 32 ILP, 33 A VEE (power), 34 A VEE (power), 35 VREF2, 36 NC, 37 NC, 38 VREF (in), 39 VREF (in), 40 NC, 41 NC, 42 R OS (in), 43 NC, 44 BYP, 45 NC, 46 NC, 47 ALTCOMPC, 48 AGND (power), 49 NC, 50 L BIAS, 51 NC, 52 NC, 53 NC, 54 B1 (in), 55 D VEE (power), 56 DGND (power), 57 DGND (power), 58 B2 (in), 59 B3 (in), 60 B4 (in), 61 NC, 62 B5 (in), 63 DGND (power), 64 B6 (in), 65 B7 (in), 66 DGND (power), 67 B8 (in), 68 NC

## DAC601H
designator U?
12-Bit 250MHz Latched ECL Digital-to-Analog Converter; Note: Pin 20 is No internal Connection (NC) pin.; Published: 8-Jun-2000; LatestRevisionDate: 06-Jun-2005; LatestRevisionNote: Stylized 3D Model Added.; DatasheetVersion: 1995; PackageVersion: 1994; PackageReference: 247; Publisher: Altium Limited; PackageDescription: DIP; 28 Leads; Row Spacing 7.62 mm; Pitch 2.54 mm; ComponentLink1Description: Manufacturer Link; ComponentLink1URL: http://www.ti.com/
footprint 247 (DIP; 28 Leads; Row Spacing 7.62 mm; Pitch 2.54 mm)
3D model 246D (DIP; 28 Leads; Row Spacing 7.62 mm; Pitch 2.54 mm)
pins: 1 B1 (in), 2 B2 (in), 3 B3 (in), 4 B4 (in), 5 B5 (in), 6 B6 (in), 7 B7 (in), 8 B8 (in), 9 B9 (in), 10 B10 (in), 11 B11 (in), 12 B12 (in), 13 CLK (in), 14 ~{CLK} (in), 15 GND (power), 16 V- (power), 17 DIVGND (power), 18 BYP, 19 LM (in), 20 NC, 21 V- (power), 22 ~{OUT} (out), 23 OUT (out), 24 REF IN (in), 25 REF O (out), 26 GND (power), 27 V- (power), 28 GND (power)

## DAC601HSQ
designator U?
12-Bit 250MHz Latched ECL Digital-to-Analog Converter; Note: Pin 20 is No internal Connection (NC) pin.; Published: 8-Jun-2000; LatestRevisionDate: 06-Jun-2005; LatestRevisionNote: Stylized 3D Model Added.; DatasheetVersion: 1995; PackageVersion: 1994; PackageReference: 247; Publisher: Altium Limited; PackageDescription: DIP; 28 Leads; Row Spacing 7.62 mm; Pitch 2.54 mm; ComponentLink1Description: Manufacturer Link; ComponentLink1URL: http://www.ti.com/
footprint 247 (DIP; 28 Leads; Row Spacing 7.62 mm; Pitch 2.54 mm)
3D model 246D (DIP; 28 Leads; Row Spacing 7.62 mm; Pitch 2.54 mm)
pins: 1 B1 (in), 2 B2 (in), 3 B3 (in), 4 B4 (in), 5 B5 (in), 6 B6 (in), 7 B7 (in), 8 B8 (in), 9 B9 (in), 10 B10 (in), 11 B11 (in), 12 B12 (in), 13 CLK (in), 14 ~{CLK} (in), 15 GND (power), 16 V- (power), 17 DIVGND (power), 18 BYP, 19 LM (in), 20 NC, 21 V- (power), 22 ~{OUT} (out), 23 OUT (out), 24 REF IN (in), 25 REF O (out), 26 GND (power), 27 V- (power), 28 GND (power)

## DAC601P
designator U?
12-Bit 250MHz Latched ECL Digital-to-Analog Converter; Note: Pin 20 is No internal Connection (NC) pin.; Published: 8-Jun-2000; LatestRevisionDate: 06-Jun-2005; LatestRevisionNote: Stylized 3D Model Added.; DatasheetVersion: 1995; PackageVersion: 1994; PackageReference: 246; Publisher: Altium Limited; PackageDescription: DIP; 28 Leads; Row Spacing 7.62 mm; Pitch 2.54 mm; ComponentLink1Description: Manufacturer Link; ComponentLink1URL: http://www.ti.com/
footprint 246 (DIP; 28 Leads; Row Spacing 7.62 mm; Pitch 2.54 mm)
3D model 246 (DIP; 28 Leads; Row Spacing 7.62 mm; Pitch 2.54 mm)
pins: 1 B1 (in), 2 B2 (in), 3 B3 (in), 4 B4 (in), 5 B5 (in), 6 B6 (in), 7 B7 (in), 8 B8 (in), 9 B9 (in), 10 B10 (in), 11 B11 (in), 12 B12 (in), 13 CLK (in), 14 ~{CLK} (in), 15 GND (power), 16 V- (power), 17 DIVGND (power), 18 BYP, 19 LM (in), 20 NC, 21 V- (power), 22 ~{OUT} (out), 23 OUT (out), 24 REF IN (in), 25 REF O (out), 26 GND (power), 27 V- (power), 28 GND (power)

## DAC601PB
designator U?
12-Bit 250MHz Latched ECL Digital-to-Analog Converter; Note: Pin 20 is No internal Connection (NC) pin.; Published: 8-Jun-2000; LatestRevisionDate: 06-Jun-2005; LatestRevisionNote: Stylized 3D Model Added.; DatasheetVersion: 1995; PackageVersion: 1994; PackageReference: 246; Publisher: Altium Limited; PackageDescription: DIP; 28 Leads; Row Spacing 7.62 mm; Pitch 2.54 mm; ComponentLink1Description: Manufacturer Link; ComponentLink1URL: http://www.ti.com/
footprint 246 (DIP; 28 Leads; Row Spacing 7.62 mm; Pitch 2.54 mm)
3D model 246 (DIP; 28 Leads; Row Spacing 7.62 mm; Pitch 2.54 mm)
pins: 1 B1 (in), 2 B2 (in), 3 B3 (in), 4 B4 (in), 5 B5 (in), 6 B6 (in), 7 B7 (in), 8 B8 (in), 9 B9 (in), 10 B10 (in), 11 B11 (in), 12 B12 (in), 13 CLK (in), 14 ~{CLK} (in), 15 GND (power), 16 V- (power), 17 DIVGND (power), 18 BYP, 19 LM (in), 20 NC, 21 V- (power), 22 ~{OUT} (out), 23 OUT (out), 24 REF IN (in), 25 REF O (out), 26 GND (power), 27 V- (power), 28 GND (power)

## DAC601U
designator U?
12-Bit 250MHz Latched ECL Digital-to-Analog Converter; Note: Pin 20 is No internal Connection (NC) pin.; Published: 8-Jun-2000; LatestRevisionDate: 13-Apr-2006; LatestRevisionNote: IPC-7351 Footprint Added.; DatasheetVersion: 1995; PackageVersion: 1995; PackageReference: 217; Publisher: Altium Limited; PackageDescription: 28-Pin Small Outline Integrated Circuit 1.27 mm Pitch; ComponentLink1Description: Manufacturer Link; ComponentLink1URL: http://www.ti.com/
footprint 217_N (SOIC, 28-Leads, Body 17.9x7.5mm, Pitch 1.27mm, IPC Medium Density)
footprint 217_L (SOIC, 28-Leads, Body 17.9x7.5mm, Pitch 1.27mm, IPC High Density)
footprint 217_M (SOIC, 28-Leads, Body 17.9x7.5mm, Pitch 1.27mm, IPC Low Density)
3D model 217 (28-Pin Small Outline Integrated Circuit 1.27 mm Pitch)
pins: 1 B1 (in), 2 B2 (in), 3 B3 (in), 4 B4 (in), 5 B5 (in), 6 B6 (in), 7 B7 (in), 8 B8 (in), 9 B9 (in), 10 B10 (in), 11 B11 (in), 12 B12 (in), 13 CLK (in), 14 ~{CLK} (in), 15 GND (power), 16 V- (power), 17 DIVGND (power), 18 BYP, 19 LM (in), 20 NC, 21 V- (power), 22 ~{OUT} (out), 23 OUT (out), 24 REF IN (in), 25 REF O (out), 26 GND (power), 27 V- (power), 28 GND (power)

## DAC601UB
designator U?
12-Bit 250MHz Latched ECL Digital-to-Analog Converter; Note: Pin 20 is No internal Connection (NC) pin.; Published: 8-Jun-2000; LatestRevisionDate: 13-Apr-2006; LatestRevisionNote: IPC-7351 Footprint Added.; DatasheetVersion: 1995; PackageVersion: 1995; PackageReference: 217; Publisher: Altium Limited; PackageDescription: 28-Pin Small Outline Integrated Circuit 1.27 mm Pitch; ComponentLink1Description: Manufacturer Link; ComponentLink1URL: http://www.ti.com/
footprint 217_N (SOIC, 28-Leads, Body 17.9x7.5mm, Pitch 1.27mm, IPC Medium Density)
footprint 217_L (SOIC, 28-Leads, Body 17.9x7.5mm, Pitch 1.27mm, IPC High Density)
footprint 217_M (SOIC, 28-Leads, Body 17.9x7.5mm, Pitch 1.27mm, IPC Low Density)
3D model 217 (28-Pin Small Outline Integrated Circuit 1.27 mm Pitch)
pins: 1 B1 (in), 2 B2 (in), 3 B3 (in), 4 B4 (in), 5 B5 (in), 6 B6 (in), 7 B7 (in), 8 B8 (in), 9 B9 (in), 10 B10 (in), 11 B11 (in), 12 B12 (in), 13 CLK (in), 14 ~{CLK} (in), 15 GND (power), 16 V- (power), 17 DIVGND (power), 18 BYP, 19 LM (in), 20 NC, 21 V- (power), 22 ~{OUT} (out), 23 OUT (out), 24 REF IN (in), 25 REF O (out), 26 GND (power), 27 V- (power), 28 GND (power)

## DAC602H
designator U?
12-Bit 100MHz Latched TTL Digital-to-Analog Converter; Note: Pin 20 is No internal Connection (NC) pin.; Published: 8-Jun-2000; LatestRevisionDate: 06-Jun-2005; LatestRevisionNote: Stylized 3D Model Added.; DatasheetVersion: 1995; PackageVersion: 1994; PackageReference: 247; Publisher: Altium Limited; PackageDescription: DIP; 28 Leads; Row Spacing 7.62 mm; Pitch 2.54 mm; ComponentLink1Description: Manufacturer Link; ComponentLink1URL: http://www.ti.com/
footprint 247 (DIP; 28 Leads; Row Spacing 7.62 mm; Pitch 2.54 mm)
3D model 246D (DIP; 28 Leads; Row Spacing 7.62 mm; Pitch 2.54 mm)
pins: 1 B1 (in), 2 B2 (in), 3 B3 (in), 4 B4 (in), 5 B5 (in), 6 B6 (in), 7 B7 (in), 8 B8 (in), 9 B9 (in), 10 B10 (in), 11 B11 (in), 12 B12 (in), 13 CLK (in), 14 V+, 15 GND (power), 16 V- (power), 17 DIVGND (power), 18 BYP, 19 LM (in), 20 NC, 21 V- (power), 22 ~{OUT} (out), 23 OUT (out), 24 REF IN (in), 25 REF O (out), 26 GND (power), 27 V- (power), 28 GND (power)

## DAC602HSQ
designator U?
12-Bit 100MHz Latched TTL Digital-to-Analog Converter; Note: Pin 20 is No internal Connection (NC) pin.; Published: 8-Jun-2000; LatestRevisionDate: 06-Jun-2005; LatestRevisionNote: Stylized 3D Model Added.; DatasheetVersion: 1995; PackageVersion: 1994; PackageReference: 247; Publisher: Altium Limited; PackageDescription: DIP; 28 Leads; Row Spacing 7.62 mm; Pitch 2.54 mm; ComponentLink1Description: Manufacturer Link; ComponentLink1URL: http://www.ti.com/
footprint 247 (DIP; 28 Leads; Row Spacing 7.62 mm; Pitch 2.54 mm)
3D model 246D (DIP; 28 Leads; Row Spacing 7.62 mm; Pitch 2.54 mm)
pins: 1 B1 (in), 2 B2 (in), 3 B3 (in), 4 B4 (in), 5 B5 (in), 6 B6 (in), 7 B7 (in), 8 B8 (in), 9 B9 (in), 10 B10 (in), 11 B11 (in), 12 B12 (in), 13 CLK (in), 14 V+, 15 GND (power), 16 V- (power), 17 DIVGND (power), 18 BYP, 19 LM (in), 20 NC, 21 V- (power), 22 ~{OUT} (out), 23 OUT (out), 24 REF IN (in), 25 REF O (out), 26 GND (power), 27 V- (power), 28 GND (power)

## DAC602P
designator U?
12-Bit 100MHz Latched TTL Digital-to-Analog Converter; Note: Pin 20 is No internal Connection (NC) pin.; Published: 8-Jun-2000; LatestRevisionDate: 06-Jun-2005; LatestRevisionNote: Stylized 3D Model Added.; DatasheetVersion: 1995; PackageVersion: 1994; PackageReference: 246; Publisher: Altium Limited; PackageDescription: DIP; 28 Leads; Row Spacing 7.62 mm; Pitch 2.54 mm; ComponentLink1Description: Manufacturer Link; ComponentLink1URL: http://www.ti.com/
footprint 246 (DIP; 28 Leads; Row Spacing 7.62 mm; Pitch 2.54 mm)
3D model 246 (DIP; 28 Leads; Row Spacing 7.62 mm; Pitch 2.54 mm)
pins: 1 B1 (in), 2 B2 (in), 3 B3 (in), 4 B4 (in), 5 B5 (in), 6 B6 (in), 7 B7 (in), 8 B8 (in), 9 B9 (in), 10 B10 (in), 11 B11 (in), 12 B12 (in), 13 CLK (in), 14 V+, 15 GND (power), 16 V- (power), 17 DIVGND (power), 18 BYP, 19 LM (in), 20 NC, 21 V- (power), 22 ~{OUT} (out), 23 OUT (out), 24 REF IN (in), 25 REF O (out), 26 GND (power), 27 V- (power), 28 GND (power)

## DAC602PB
designator U?
12-Bit 100MHz Latched TTL Digital-to-Analog Converter; Note: Pin 20 is No internal Connection (NC) pin.; Published: 8-Jun-2000; LatestRevisionDate: 06-Jun-2005; LatestRevisionNote: Stylized 3D Model Added.; DatasheetVersion: 1995; PackageVersion: 1994; PackageReference: 246; Publisher: Altium Limited; PackageDescription: DIP; 28 Leads; Row Spacing 7.62 mm; Pitch 2.54 mm; ComponentLink1Description: Manufacturer Link; ComponentLink1URL: http://www.ti.com/
footprint 246 (DIP; 28 Leads; Row Spacing 7.62 mm; Pitch 2.54 mm)
3D model 246 (DIP; 28 Leads; Row Spacing 7.62 mm; Pitch 2.54 mm)
pins: 1 B1 (in), 2 B2 (in), 3 B3 (in), 4 B4 (in), 5 B5 (in), 6 B6 (in), 7 B7 (in), 8 B8 (in), 9 B9 (in), 10 B10 (in), 11 B11 (in), 12 B12 (in), 13 CLK (in), 14 V+, 15 GND (power), 16 V- (power), 17 DIVGND (power), 18 BYP, 19 LM (in), 20 NC, 21 V- (power), 22 ~{OUT} (out), 23 OUT (out), 24 REF IN (in), 25 REF O (out), 26 GND (power), 27 V- (power), 28 GND (power)

## DAC602U
designator U?
12-Bit 100MHz Latched TTL Digital-to-Analog Converter; Note: Pin 20 is No internal Connection (NC) pin.; Published: 8-Jun-2000; LatestRevisionDate: 13-Apr-2006; LatestRevisionNote: IPC-7351 Footprint Added.; DatasheetVersion: 1995; PackageVersion: 1995; PackageReference: 217; Publisher: Altium Limited; PackageDescription: 28-Pin Small Outline Integrated Circuit 1.27 mm Pitch; ComponentLink1Description: Manufacturer Link; ComponentLink1URL: http://www.ti.com/
footprint 217_N (SOIC, 28-Leads, Body 17.9x7.5mm, Pitch 1.27mm, IPC Medium Density)
footprint 217_L (SOIC, 28-Leads, Body 17.9x7.5mm, Pitch 1.27mm, IPC High Density)
footprint 217_M (SOIC, 28-Leads, Body 17.9x7.5mm, Pitch 1.27mm, IPC Low Density)
3D model 217 (28-Pin Small Outline Integrated Circuit 1.27 mm Pitch)
pins: 1 B1 (in), 2 B2 (in), 3 B3 (in), 4 B4 (in), 5 B5 (in), 6 B6 (in), 7 B7 (in), 8 B8 (in), 9 B9 (in), 10 B10 (in), 11 B11 (in), 12 B12 (in), 13 CLK (in), 14 V+, 15 GND (power), 16 V- (power), 17 DIVGND (power), 18 BYP, 19 LM (in), 20 NC, 21 V- (power), 22 ~{OUT} (out), 23 OUT (out), 24 REF IN (in), 25 REF O (out), 26 GND (power), 27 V- (power), 28 GND (power)

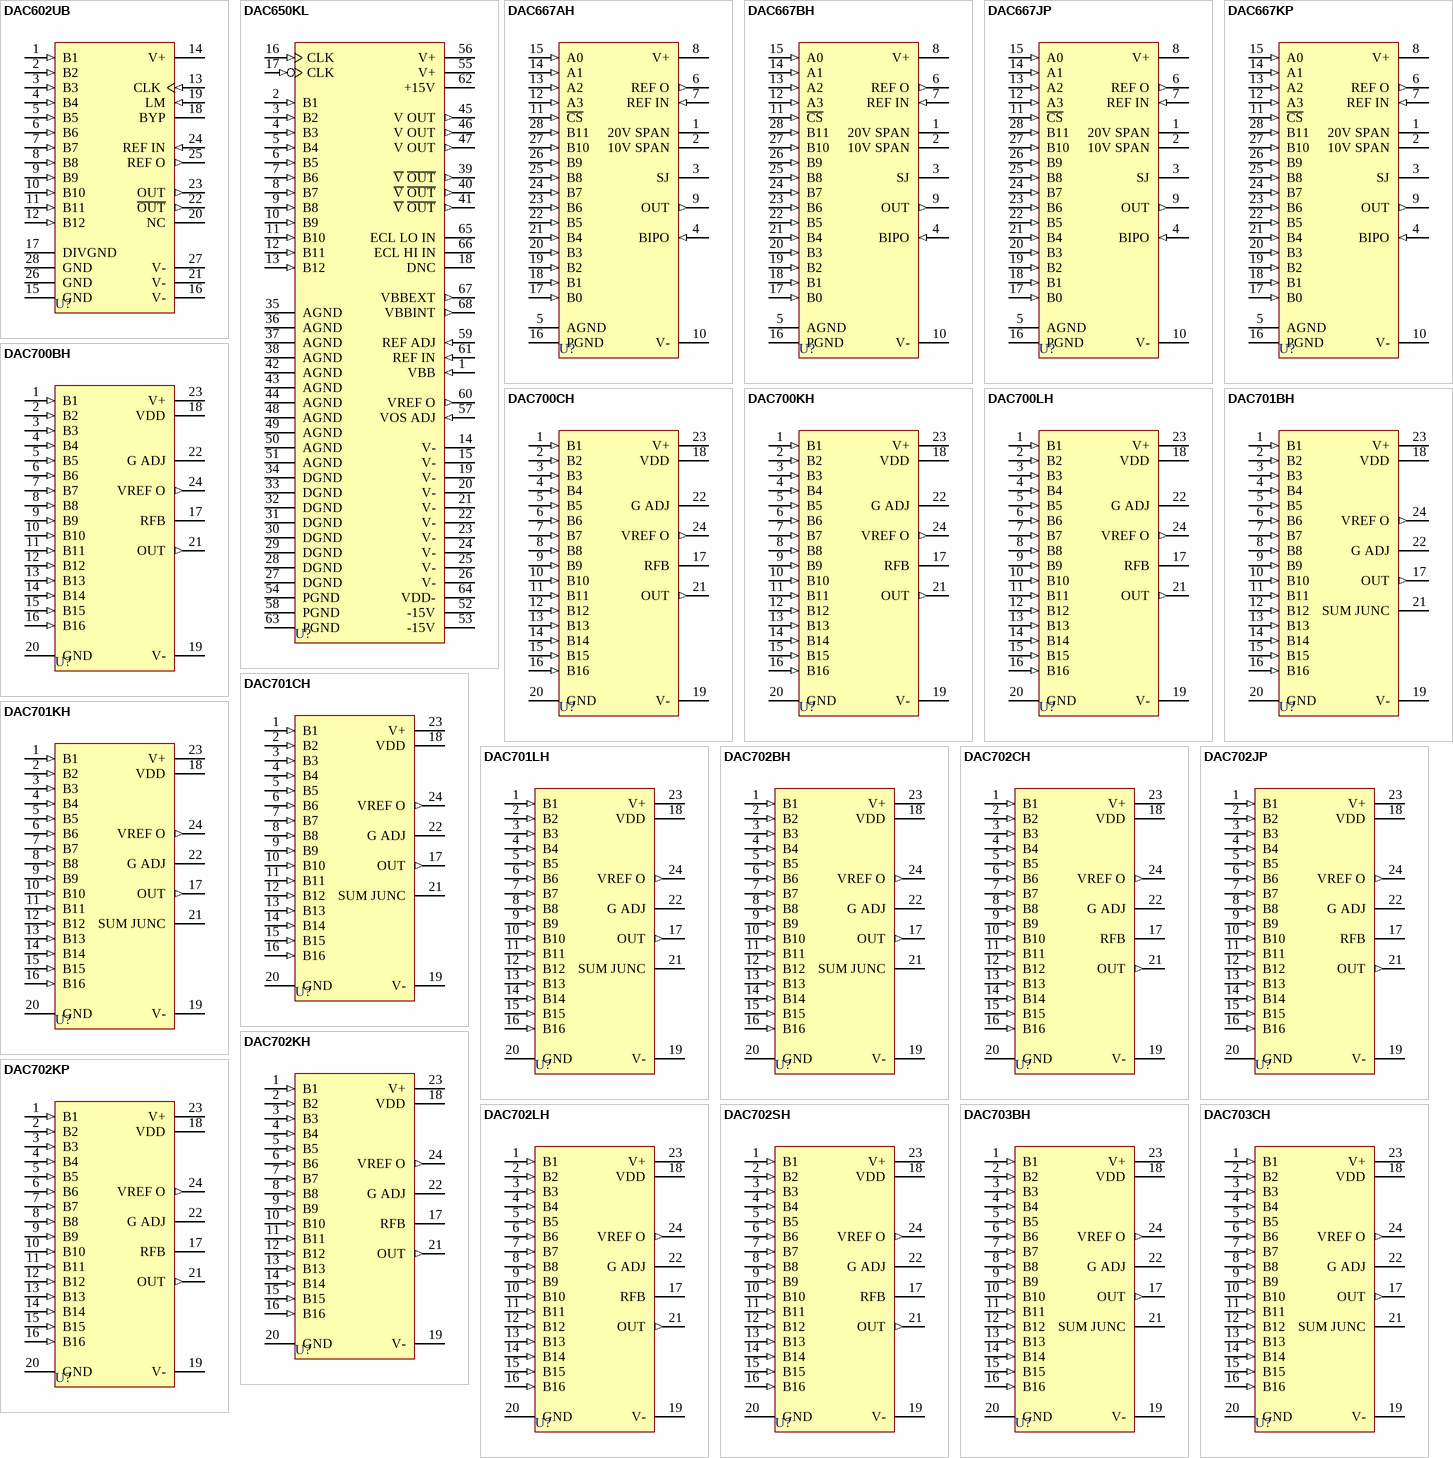
[diagram p2: symbols DAC602UB to DAC703CH]

## DAC602UB
designator U?
12-Bit 100MHz Latched TTL Digital-to-Analog Converter; Note: Pin 20 is No internal Connection (NC) pin.; Published: 8-Jun-2000; LatestRevisionDate: 13-Apr-2006; LatestRevisionNote: IPC-7351 Footprint Added.; DatasheetVersion: 1995; PackageVersion: 1995; PackageReference: 217; Publisher: Altium Limited; PackageDescription: 28-Pin Small Outline Integrated Circuit 1.27 mm Pitch; ComponentLink1Description: Manufacturer Link; ComponentLink1URL: http://www.ti.com/
footprint 217_N (SOIC, 28-Leads, Body 17.9x7.5mm, Pitch 1.27mm, IPC Medium Density)
footprint 217_L (SOIC, 28-Leads, Body 17.9x7.5mm, Pitch 1.27mm, IPC High Density)
footprint 217_M (SOIC, 28-Leads, Body 17.9x7.5mm, Pitch 1.27mm, IPC Low Density)
3D model 217 (28-Pin Small Outline Integrated Circuit 1.27 mm Pitch)
pins: 1 B1 (in), 2 B2 (in), 3 B3 (in), 4 B4 (in), 5 B5 (in), 6 B6 (in), 7 B7 (in), 8 B8 (in), 9 B9 (in), 10 B10 (in), 11 B11 (in), 12 B12 (in), 13 CLK (in), 14 V+, 15 GND (power), 16 V- (power), 17 DIVGND (power), 18 BYP, 19 LM (in), 20 NC, 21 V- (power), 22 ~{OUT} (out), 23 OUT (out), 24 REF IN (in), 25 REF O (out), 26 GND (power), 27 V- (power), 28 GND (power)